# Altium footprint library CLS_Library.PcbLib: 23 footprints (part 2 of 2)
Each footprint in its own frame and in the unit in brackets; x right, y up, seen from the top. Pads: shape width x height; smd on the part's side, far side on the other; paste and mask are expansions set on the pad; w line width, h text height; cw(c..) or ccw(c..) is an arc to the next point about the centre after c.
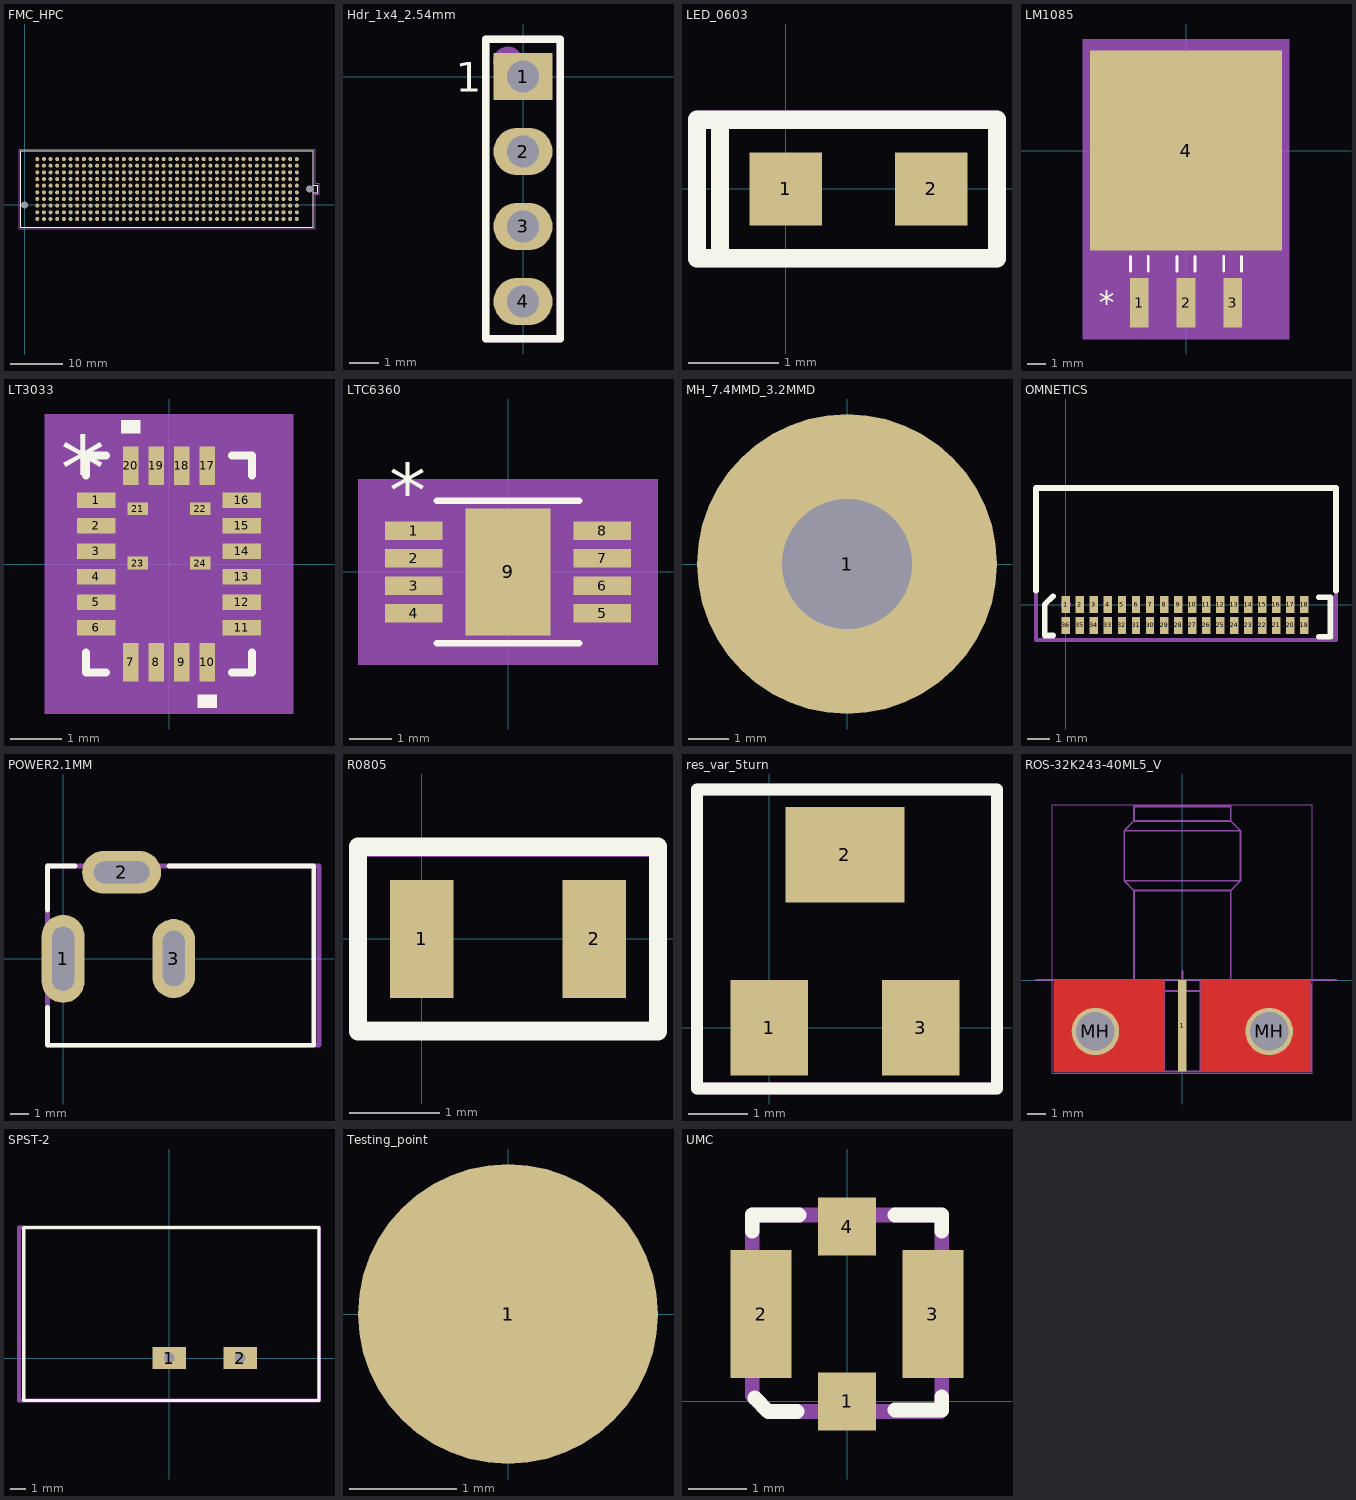
[diagram p1: the footprints below, top view; thin cyan lines are the x and y axes]

## FMC_HPC [mm]
pads (802):
  round 0.762 smd paste-25.4 mask+0.013: A1(51.956,8.765) A2(50.686,8.765) A3(49.416,8.765) A4(48.146,8.765) A5(46.876,8.765) A6(45.606,8.765) A7(44.336,8.765) A8(43.066,8.765) A9(41.796,8.765) A10(40.526,8.765) A11(39.256,8.765) A12(37.986,8.765) A13(36.716,8.765) A14(35.446,8.765) A15(34.176,8.765) A16(32.906,8.765) A17(31.636,8.765) A18(30.366,8.765) A19(29.096,8.765) A20(27.826,8.765) A21(26.556,8.765) A22(25.286,8.765) A23(24.016,8.765) A24(22.746,8.765) A25(21.476,8.765) A26(20.206,8.765) A27(18.936,8.765) A28(17.666,8.765) A29(16.396,8.765) A30(15.126,8.765) A31(13.856,8.765) A32(12.586,8.765) A33(11.316,8.765) A34(10.046,8.765) A35(8.776,8.765) A36(7.506,8.765) A37(6.236,8.765) A38(4.966,8.765) A39(3.696,8.765) A40(2.426,8.765) B1(51.956,7.495) B2(50.686,7.495) B3(49.416,7.495) B4(48.146,7.495) B5(46.876,7.495) B6(45.606,7.495) B7(44.336,7.495) B8(43.066,7.495) B9(41.796,7.495) B10(40.526,7.495) B11(39.256,7.495) B12(37.986,7.495) B13(36.716,7.495) B14(35.446,7.495) B15(34.176,7.495) B16(32.906,7.495) B17(31.636,7.495) B18(30.366,7.495) B19(29.096,7.495) B20(27.826,7.495) B21(26.556,7.495) B22(25.286,7.495) B23(24.016,7.495) B24(22.746,7.495) B25(21.476,7.495) B26(20.206,7.495) B27(18.936,7.495) B28(17.666,7.495) B29(16.396,7.495) B30(15.126,7.495) B31(13.856,7.495) B32(12.586,7.495) B33(11.316,7.495) B34(10.046,7.495) B35(8.776,7.495) B36(7.506,7.495) B37(6.236,7.495) B38(4.966,7.495) B39(3.696,7.495) B40(2.426,7.495) C1(51.956,6.225) C2(50.686,6.225) C3(49.416,6.225) C4(48.146,6.225) C5(46.876,6.225) C6(45.606,6.225) C7(44.336,6.225) C8(43.066,6.225) C9(41.796,6.225) C10(40.526,6.225) C11(39.256,6.225) C12(37.986,6.225) C13(36.716,6.225) C14(35.446,6.225) C15(34.176,6.225) C16(32.906,6.225) C17(31.636,6.225) C18(30.366,6.225) C19(29.096,6.225) C20(27.826,6.225) C21(26.556,6.225) C22(25.286,6.225) C23(24.016,6.225) C24(22.746,6.225) C25(21.476,6.225) C26(20.206,6.225) C27(18.936,6.225) C28(17.666,6.225) C29(16.396,6.225) C30(15.126,6.225) C31(13.856,6.225) C32(12.586,6.225) C33(11.316,6.225) C34(10.046,6.225) C35(8.776,6.225) C36(7.506,6.225) C37(6.236,6.225) C38(4.966,6.225) C39(3.696,6.225) C40(2.426,6.225) D1(51.956,4.955) D2(50.686,4.955) D3(49.416,4.955) D4(48.146,4.955) D5(46.876,4.955) D6(45.606,4.955) D7(44.336,4.955) D8(43.066,4.955) D9(41.796,4.955) D10(40.526,4.955) D11(39.256,4.955) D12(37.986,4.955) D13(36.716,4.955) D14(35.446,4.955) D15(34.176,4.955) D16(32.906,4.955) D17(31.636,4.955) D18(30.366,4.955) D19(29.096,4.955) D20(27.826,4.955) D21(26.556,4.955) D22(25.286,4.955) D23(24.016,4.955) D24(22.746,4.955) D25(21.476,4.955) D26(20.206,4.955) D27(18.936,4.955) D28(17.666,4.955) D29(16.396,4.955) D30(15.126,4.955) D31(13.856,4.955) D32(12.586,4.955) D33(11.316,4.955) D34(10.046,4.955) D35(8.776,4.955) D36(7.506,4.955) D37(6.236,4.955) D38(4.966,4.955) D39(3.696,4.955) D40(2.426,4.955) E1(51.956,3.685) E2(50.686,3.685) E3(49.416,3.685) E4(48.146,3.685) E5(46.876,3.685) E6(45.606,3.685) E7(44.336,3.685) E8(43.066,3.685) E9(41.796,3.685) E10(40.526,3.685) E11(39.256,3.685) E12(37.986,3.685) E13(36.716,3.685) E14(35.446,3.685) E15(34.176,3.685) E16(32.906,3.685) E17(31.636,3.685) E18(30.366,3.685) E19(29.096,3.685) E20(27.826,3.685) E21(26.556,3.685) E22(25.286,3.685) E23(24.016,3.685) E24(22.746,3.685) E25(21.476,3.685) E26(20.206,3.685) E27(18.936,3.685) E28(17.666,3.685) E29(16.396,3.685) E30(15.126,3.685) E31(13.856,3.685) E32(12.586,3.685) E33(11.316,3.685) E34(10.046,3.685) E35(8.776,3.685) E36(7.506,3.685) E37(6.236,3.685) E38(4.966,3.685) E39(3.696,3.685) E40(2.426,3.685) F1(51.956,2.415) F2(50.686,2.415) F3(49.416,2.415) F4(48.146,2.415) F5(46.876,2.415) F6(45.606,2.415) F7(44.336,2.415) F8(43.066,2.415) F9(41.796,2.415) F10(40.526,2.415) F11(39.256,2.415) F12(37.986,2.415) F13(36.716,2.415) F14(35.446,2.415) F15(34.176,2.415) F16(32.906,2.415) F17(31.636,2.415) F18(30.366,2.415) F19(29.096,2.415) F20(27.826,2.415) F21(26.556,2.415) F22(25.286,2.415) F23(24.016,2.415) F24(22.746,2.415) F25(21.476,2.415) F26(20.206,2.415) F27(18.936,2.415) F28(17.666,2.415) F29(16.396,2.415) F30(15.126,2.415) F31(13.856,2.415) F32(12.586,2.415) F33(11.316,2.415) F34(10.046,2.415) F35(8.776,2.415) F36(7.506,2.415) F37(6.236,2.415) F38(4.966,2.415) F39(3.696,2.415) F40(2.426,2.415) G1(51.956,1.145) G2(50.686,1.145) G3(49.416,1.145) G4(48.146,1.145) G5(46.876,1.145) G6(45.606,1.145) G7(44.336,1.145) G8(43.066,1.145) G9(41.796,1.145) G10(40.526,1.145) G11(39.256,1.145) G12(37.986,1.145) G13(36.716,1.145) G14(35.446,1.145) G15(34.176,1.145) G16(32.906,1.145) G17(31.636,1.145) G18(30.366,1.145) G19(29.096,1.145) G20(27.826,1.145) G21(26.556,1.145) G22(25.286,1.145) G23(24.016,1.145) G24(22.746,1.145) G25(21.476,1.145) G26(20.206,1.145) G27(18.936,1.145) G28(17.666,1.145) G29(16.396,1.145) G30(15.126,1.145) G31(13.856,1.145) G32(12.586,1.145) G33(11.316,1.145) G34(10.046,1.145) G35(8.776,1.145) G36(7.506,1.145) G37(6.236,1.145) G38(4.966,1.145) G39(3.696,1.145) G40(2.426,1.145) H1(51.956,-0.125) H2(50.686,-0.125) H3(49.416,-0.125) H4(48.146,-0.125) H5(46.876,-0.125) H6(45.606,-0.125) H7(44.336,-0.125) H8(43.066,-0.125) H9(41.796,-0.125) H10(40.526,-0.125) H11(39.256,-0.125) H12(37.986,-0.125) H13(36.716,-0.125) H14(35.446,-0.125) H15(34.176,-0.125) H16(32.906,-0.125) H17(31.636,-0.125) H18(30.366,-0.125) H19(29.096,-0.125) H20(27.826,-0.125) H21(26.556,-0.125) H22(25.286,-0.125) H23(24.016,-0.125) H24(22.746,-0.125) H25(21.476,-0.125) H26(20.206,-0.125) H27(18.936,-0.125) H28(17.666,-0.125) H29(16.396,-0.125) H30(15.126,-0.125) H31(13.856,-0.125) H32(12.586,-0.125) H33(11.316,-0.125) H34(10.046,-0.125) H35(8.776,-0.125) H36(7.506,-0.125) H37(6.236,-0.125) H38(4.966,-0.125) H39(3.696,-0.125) H40(2.426,-0.125) J1(51.956,-1.395) J2(50.686,-1.395) J3(49.416,-1.395) J4(48.146,-1.395) J5(46.876,-1.395) J6(45.606,-1.395) J7(44.336,-1.395) J8(43.066,-1.395) J9(41.796,-1.395) J10(40.526,-1.395) J11(39.256,-1.395) J12(37.986,-1.395) J13(36.716,-1.395) J14(35.446,-1.395) J15(34.176,-1.395) J16(32.906,-1.395) J17(31.636,-1.395) J18(30.366,-1.395) J19(29.096,-1.395) J20(27.826,-1.395) J21(26.556,-1.395) J22(25.286,-1.395) J23(24.016,-1.395) J24(22.746,-1.395) J25(21.476,-1.395) J26(20.206,-1.395) J27(18.936,-1.395) J28(17.666,-1.395) J29(16.396,-1.395) J30(15.126,-1.395) J31(13.856,-1.395) J32(12.586,-1.395) J33(11.316,-1.395) J34(10.046,-1.395) J35(8.776,-1.395) J36(7.506,-1.395) J37(6.236,-1.395) J38(4.966,-1.395) J39(3.696,-1.395) J40(2.426,-1.395) K1(51.956,-2.665) K2(50.686,-2.665) K3(49.416,-2.665) K4(48.146,-2.665) K5(46.876,-2.665) K6(45.606,-2.665) K7(44.336,-2.665) K8(43.066,-2.665) K9(41.796,-2.665) K10(40.526,-2.665) K11(39.256,-2.665) K12(37.986,-2.665) K13(36.716,-2.665) K14(35.446,-2.665) K15(34.176,-2.665) K16(32.906,-2.665) K17(31.636,-2.665) K18(30.366,-2.665) K19(29.096,-2.665) K20(27.826,-2.665) K21(26.556,-2.665) K22(25.286,-2.665) K23(24.016,-2.665) K24(22.746,-2.665) K25(21.476,-2.665) K26(20.206,-2.665) K27(18.936,-2.665) K28(17.666,-2.665) K29(16.396,-2.665) K30(15.126,-2.665) K31(13.856,-2.665) K32(12.586,-2.665) K33(11.316,-2.665) K34(10.046,-2.665) K35(8.776,-2.665) K36(7.506,-2.665) K37(6.236,-2.665) K38(4.966,-2.665) K39(3.696,-2.665) K40(2.426,-2.665)
  round 1.27 hole 1.27 unplated: ""(0,0) ""(54.382,3.05)
  round 0.635 on Bottom Solder paste-25.4 mask+0.003: ""(2.426,-2.665) ""(2.426,-1.395) ""(2.426,-0.125) ""(2.426,1.145) ""(2.426,2.415) ""(2.426,3.685) ""(2.426,4.955) ""(2.426,6.225) ""(2.426,7.495) ""(2.426,8.765) ""(3.696,-2.665) ""(3.696,-1.395) ""(3.696,-0.125) ""(3.696,1.145) ""(3.696,2.415) ""(3.696,3.685) ""(3.696,4.955) ""(3.696,6.225) ""(3.696,7.495) ""(3.696,8.765) ""(4.966,-2.665) ""(4.966,-1.395) ""(4.966,-0.125) ""(4.966,1.145) ""(4.966,2.415) ""(4.966,3.685) ""(4.966,4.955) ""(4.966,6.225) ""(4.966,7.495) ""(4.966,8.765) ""(6.236,-2.665) ""(6.236,-1.395) ""(6.236,-0.125) ""(6.236,1.145) ""(6.236,2.415) ""(6.236,3.685) ""(6.236,4.955) ""(6.236,6.225) ""(6.236,7.495) ""(6.236,8.765) ""(7.506,-2.665) ""(7.506,-1.395) ""(7.506,-0.125) ""(7.506,1.145) ""(7.506,2.415) ""(7.506,3.685) ""(7.506,4.955) ""(7.506,6.225) ""(7.506,7.495) ""(7.506,8.765) ""(8.776,-2.665) ""(8.776,-1.395) ""(8.776,-0.125) ""(8.776,1.145) ""(8.776,2.415) ""(8.776,3.685) ""(8.776,4.955) ""(8.776,6.225) ""(8.776,7.495) ""(8.776,8.765) ""(10.046,-2.665) ""(10.046,-1.395) ""(10.046,-0.125) ""(10.046,1.145) ""(10.046,2.415) ""(10.046,3.685) ""(10.046,4.955) ""(10.046,6.225) ""(10.046,7.495) ""(10.046,8.765) ""(11.316,-2.665) ""(11.316,-1.395) ""(11.316,-0.125) ""(11.316,1.145) ""(11.316,2.415) ""(11.316,3.685) ""(11.316,4.955) ""(11.316,6.225) ""(11.316,7.495) ""(11.316,8.765) ""(12.586,-2.665) ""(12.586,-1.395) ""(12.586,-0.125) ""(12.586,1.145) ""(12.586,2.415) ""(12.586,3.685) ""(12.586,4.955) ""(12.586,6.225) ""(12.586,7.495) ""(12.586,8.765) ""(13.856,-2.665) ""(13.856,-1.395) ""(13.856,-0.125) ""(13.856,1.145) ""(13.856,2.415) ""(13.856,3.685) ""(13.856,4.955) ""(13.856,6.225) ""(13.856,7.495) ""(13.856,8.765) ""(15.126,-2.665) ""(15.126,-1.395) ""(15.126,-0.125) ""(15.126,1.145) ""(15.126,2.415) ""(15.126,3.685) ""(15.126,4.955) ""(15.126,6.225) ""(15.126,7.495) ""(15.126,8.765) ""(16.396,-2.665) ""(16.396,-1.395) ""(16.396,-0.125) ""(16.396,1.145) ""(16.396,2.415) ""(16.396,3.685) ""(16.396,4.955) ""(16.396,6.225) ""(16.396,7.495) ""(16.396,8.765) ""(17.666,-2.665) ""(17.666,-1.395) ""(17.666,-0.125) ""(17.666,1.145) ""(17.666,2.415) ""(17.666,3.685) ""(17.666,4.955) ""(17.666,6.225) ""(17.666,7.495) ""(17.666,8.765) ""(18.936,-2.665) ""(18.936,-1.395) ""(18.936,-0.125) ""(18.936,1.145) ""(18.936,2.415) ""(18.936,3.685) ""(18.936,4.955) ""(18.936,6.225) ""(18.936,7.495) ""(18.936,8.765) ""(20.206,-2.665) ""(20.206,-1.395) ""(20.206,-0.125) ""(20.206,1.145) ""(20.206,2.415) ""(20.206,3.685) ""(20.206,4.955) ""(20.206,6.225) ""(20.206,7.495) ""(20.206,8.765) ""(21.476,-2.665) ""(21.476,-1.395) ""(21.476,-0.125) ""(21.476,1.145) ""(21.476,2.415) ""(21.476,3.685) ""(21.476,4.955) ""(21.476,6.225) ""(21.476,7.495) ""(21.476,8.765) ""(22.746,-2.665) ""(22.746,-1.395) ""(22.746,-0.125) ""(22.746,1.145) ""(22.746,2.415) ""(22.746,3.685) ""(22.746,4.955) ""(22.746,6.225) ""(22.746,7.495) ""(22.746,8.765) ""(24.016,-2.665) ""(24.016,-1.395) ""(24.016,-0.125) ""(24.016,1.145) ""(24.016,2.415) ""(24.016,3.685) ""(24.016,4.955) ""(24.016,6.225) ""(24.016,7.495) ""(24.016,8.765) ""(25.286,-2.665) ""(25.286,-1.395) ""(25.286,-0.125) ""(25.286,1.145) ""(25.286,2.415) ""(25.286,3.685) ""(25.286,4.955) ""(25.286,6.225) ""(25.286,7.495) ""(25.286,8.765) ""(26.556,-2.665) ""(26.556,-1.395) ""(26.556,-0.125) ""(26.556,1.145) ""(26.556,2.415) ""(26.556,3.685) ""(26.556,4.955) ""(26.556,6.225) ""(26.556,7.495) ""(26.556,8.765) ""(27.826,-2.665) ""(27.826,-1.395) ""(27.826,-0.125) ""(27.826,1.145) ""(27.826,2.415) ""(27.826,3.685) ""(27.826,4.955) ""(27.826,6.225) ""(27.826,7.495) ""(27.826,8.765) ""(29.096,-2.665) ""(29.096,-1.395) ""(29.096,-0.125) ""(29.096,1.145) ""(29.096,2.415) ""(29.096,3.685) ""(29.096,4.955) ""(29.096,6.225) ""(29.096,7.495) ""(29.096,8.765) ""(30.366,-2.665) ""(30.366,-1.395) ""(30.366,-0.125) ""(30.366,1.145) ""(30.366,2.415) ""(30.366,3.685) ""(30.366,4.955) ""(30.366,6.225) ""(30.366,7.495) ""(30.366,8.765) ""(31.636,-2.665) ""(31.636,-1.395) ""(31.636,-0.125) ""(31.636,1.145) ""(31.636,2.415) ""(31.636,3.685) ""(31.636,4.955) ""(31.636,6.225) ""(31.636,7.495) ""(31.636,8.765) ""(32.906,-2.665) ""(32.906,-1.395) ""(32.906,-0.125) ""(32.906,1.145) ""(32.906,2.415) ""(32.906,3.685) ""(32.906,4.955) ""(32.906,6.225) ""(32.906,7.495) ""(32.906,8.765) ""(34.176,-2.665) ""(34.176,-1.395) ""(34.176,-0.125) ""(34.176,1.145) ""(34.176,2.415) ""(34.176,3.685) ""(34.176,4.955) ""(34.176,6.225) ""(34.176,7.495) ""(34.176,8.765) ""(35.446,-2.665) ""(35.446,-1.395) ""(35.446,-0.125) ""(35.446,1.145) ""(35.446,2.415) ""(35.446,3.685) ""(35.446,4.955) ""(35.446,6.225) ""(35.446,7.495) ""(35.446,8.765) ""(36.716,-2.665) ""(36.716,-1.395) ""(36.716,-0.125) ""(36.716,1.145) ""(36.716,2.415) ""(36.716,3.685) ""(36.716,4.955) ""(36.716,6.225) ""(36.716,7.495) ""(36.716,8.765) ""(37.986,-2.665) ""(37.986,-1.395) ""(37.986,-0.125) ""(37.986,1.145) ""(37.986,2.415) ""(37.986,3.685) ""(37.986,4.955) ""(37.986,6.225) ""(37.986,7.495) ""(37.986,8.765) ""(39.256,-2.665) ""(39.256,-1.395) ""(39.256,-0.125) ""(39.256,1.145) ""(39.256,2.415) ""(39.256,3.685) ""(39.256,4.955) ""(39.256,6.225) ""(39.256,7.495) ""(39.256,8.765) ""(40.526,-2.665) ""(40.526,-1.395) ""(40.526,-0.125) ""(40.526,1.145) ""(40.526,2.415) ""(40.526,3.685) ""(40.526,4.955) ""(40.526,6.225) ""(40.526,7.495) ""(40.526,8.765) ""(41.796,-2.665) ""(41.796,-1.395) ""(41.796,-0.125) ""(41.796,1.145) ""(41.796,2.415) ""(41.796,3.685) ""(41.796,4.955) ""(41.796,6.225) ""(41.796,7.495) ""(41.796,8.765) ""(43.066,-2.665) ""(43.066,-1.395) ""(43.066,-0.125) ""(43.066,1.145) ""(43.066,2.415) ""(43.066,3.685) ""(43.066,4.955) ""(43.066,6.225) ""(43.066,7.495) ""(43.066,8.765) ""(44.336,-2.665) ""(44.336,-1.395) ""(44.336,-0.125) ""(44.336,1.145) ""(44.336,2.415) ""(44.336,3.685) ""(44.336,4.955) ""(44.336,6.225) ""(44.336,7.495) ""(44.336,8.765) ""(45.606,-2.665) ""(45.606,-1.395) ""(45.606,-0.125) ""(45.606,1.145) ""(45.606,2.415) ""(45.606,3.685) ""(45.606,4.955) ""(45.606,6.225) ""(45.606,7.495) ""(45.606,8.765) ""(46.876,-2.665) ""(46.876,-1.395) ""(46.876,-0.125) ""(46.876,1.145) ""(46.876,2.415) ""(46.876,3.685) ""(46.876,4.955) ""(46.876,6.225) ""(46.876,7.495) ""(46.876,8.765) ""(48.146,-2.665) ""(48.146,-1.395) ""(48.146,-0.125) ""(48.146,1.145) ""(48.146,2.415) ""(48.146,3.685) ""(48.146,4.955) ""(48.146,6.225) ""(48.146,7.495) ""(48.146,8.765) ""(49.416,-2.665) ""(49.416,-1.395) ""(49.416,-0.125) ""(49.416,1.145) ""(49.416,2.415) ""(49.416,3.685) ""(49.416,4.955) ""(49.416,6.225) ""(49.416,7.495) ""(49.416,8.765) ""(50.686,-2.665) ""(50.686,-1.395) ""(50.686,-0.125) ""(50.686,1.145) ""(50.686,2.415) ""(50.686,3.685) ""(50.686,4.955) ""(50.686,6.225) ""(50.686,7.495) ""(50.686,8.765) ""(51.956,-2.665) ""(51.956,-1.395) ""(51.956,-0.125) ""(51.956,1.145) ""(51.956,2.415) ""(51.956,3.685) ""(51.956,4.955) ""(51.956,6.225) ""(51.956,7.495) ""(51.956,8.765)
via 20.206,3.685 diameter 0.635 hole 0.254
via 21.476,3.685 diameter 0.635 hole 0.254
via 22.746,3.685 diameter 0.635 hole 0.254
via 24.016,3.685 diameter 0.635 hole 0.254
via 20.206,2.415 diameter 0.635 hole 0.254
via 21.476,2.415 diameter 0.635 hole 0.254
via 22.746,2.415 diameter 0.635 hole 0.254
via 24.016,2.415 diameter 0.635 hole 0.254
via 20.206,-1.395 diameter 0.635 hole 0.254
via 21.476,-1.395 diameter 0.635 hole 0.254
via 22.746,-1.395 diameter 0.635 hole 0.254
via 24.016,-1.395 diameter 0.635 hole 0.254
via 20.206,-2.665 diameter 0.635 hole 0.254
via 21.476,-2.665 diameter 0.635 hole 0.254
via 22.746,-2.665 diameter 0.635 hole 0.254
via 24.016,-2.665 diameter 0.635 hole 0.254
via 2.426,2.415 diameter 0.635 hole 0.254
via 2.426,3.685 diameter 0.635 hole 0.254
via 3.696,3.685 diameter 0.635 hole 0.254
via 4.966,3.685 diameter 0.635 hole 0.254
via 6.236,3.685 diameter 0.635 hole 0.254
via 7.506,3.685 diameter 0.635 hole 0.254
via 8.776,3.685 diameter 0.635 hole 0.254
via 10.046,3.685 diameter 0.635 hole 0.254
via 11.316,3.685 diameter 0.635 hole 0.254
via 12.586,3.685 diameter 0.635 hole 0.254
via 13.856,3.685 diameter 0.635 hole 0.254
via 15.126,3.685 diameter 0.635 hole 0.254
via 16.396,3.685 diameter 0.635 hole 0.254
via 17.666,3.685 diameter 0.635 hole 0.254
via 18.936,3.685 diameter 0.635 hole 0.254
via 25.286,3.685 diameter 0.635 hole 0.254
via 26.556,3.685 diameter 0.635 hole 0.254
via 27.826,3.685 diameter 0.635 hole 0.254
via 29.096,3.685 diameter 0.635 hole 0.254
via 30.366,3.685 diameter 0.635 hole 0.254
via 31.636,3.685 diameter 0.635 hole 0.254
via 32.906,3.685 diameter 0.635 hole 0.254
via 34.176,3.685 diameter 0.635 hole 0.254
via 35.446,3.685 diameter 0.635 hole 0.254
via 36.716,3.685 diameter 0.635 hole 0.254
via 37.986,3.685 diameter 0.635 hole 0.254
via 39.256,3.685 diameter 0.635 hole 0.254
via 40.526,3.685 diameter 0.635 hole 0.254
via 41.796,3.685 diameter 0.635 hole 0.254
via 43.066,3.685 diameter 0.635 hole 0.254
via 44.336,3.685 diameter 0.635 hole 0.254
via 45.606,3.685 diameter 0.635 hole 0.254
via 46.876,3.685 diameter 0.635 hole 0.254
via 48.146,3.685 diameter 0.635 hole 0.254
via 49.416,3.685 diameter 0.635 hole 0.254
via 50.686,3.685 diameter 0.635 hole 0.254
via 51.956,3.685 diameter 0.635 hole 0.254
via 3.696,2.415 diameter 0.635 hole 0.254
via 4.966,2.415 diameter 0.635 hole 0.254
via 6.236,2.415 diameter 0.635 hole 0.254
via 7.506,2.415 diameter 0.635 hole 0.254
via 8.776,2.415 diameter 0.635 hole 0.254
via 10.046,2.415 diameter 0.635 hole 0.254
via 11.316,2.415 diameter 0.635 hole 0.254
via 12.586,2.415 diameter 0.635 hole 0.254
via 13.856,2.415 diameter 0.635 hole 0.254
via 15.126,2.415 diameter 0.635 hole 0.254
via 16.396,2.415 diameter 0.635 hole 0.254
via 17.666,2.415 diameter 0.635 hole 0.254
via 18.936,2.415 diameter 0.635 hole 0.254
via 25.286,2.415 diameter 0.635 hole 0.254
via 26.556,2.415 diameter 0.635 hole 0.254
via 27.826,2.415 diameter 0.635 hole 0.254
via 29.096,2.415 diameter 0.635 hole 0.254
via 30.366,2.415 diameter 0.635 hole 0.254
via 31.636,2.415 diameter 0.635 hole 0.254
via 32.906,2.415 diameter 0.635 hole 0.254
via 34.176,2.415 diameter 0.635 hole 0.254
via 35.446,2.415 diameter 0.635 hole 0.254
via 36.716,2.415 diameter 0.635 hole 0.254
via 37.986,2.415 diameter 0.635 hole 0.254
via 39.256,2.415 diameter 0.635 hole 0.254
via 40.526,2.415 diameter 0.635 hole 0.254
via 41.796,2.415 diameter 0.635 hole 0.254
via 43.066,2.415 diameter 0.635 hole 0.254
via 44.336,2.415 diameter 0.635 hole 0.254
via 45.606,2.415 diameter 0.635 hole 0.254
via 46.876,2.415 diameter 0.635 hole 0.254
via 48.146,2.415 diameter 0.635 hole 0.254
via 49.416,2.415 diameter 0.635 hole 0.254
via 50.686,2.415 diameter 0.635 hole 0.254
via 51.956,2.415 diameter 0.635 hole 0.254
via 2.426,-1.395 diameter 0.635 hole 0.254
via 3.696,-1.395 diameter 0.635 hole 0.254
via 4.966,-1.395 diameter 0.635 hole 0.254
via 6.236,-1.395 diameter 0.635 hole 0.254
via 7.506,-1.395 diameter 0.635 hole 0.254
via 8.776,-1.395 diameter 0.635 hole 0.254
via 10.046,-1.395 diameter 0.635 hole 0.254
via 11.316,-1.395 diameter 0.635 hole 0.254
via 12.586,-1.395 diameter 0.635 hole 0.254
via 13.856,-1.395 diameter 0.635 hole 0.254
via 15.126,-1.395 diameter 0.635 hole 0.254
via 16.396,-1.395 diameter 0.635 hole 0.254
via 17.666,-1.395 diameter 0.635 hole 0.254
via 18.936,-1.395 diameter 0.635 hole 0.254
via 25.286,-1.395 diameter 0.635 hole 0.254
via 26.556,-1.395 diameter 0.635 hole 0.254
via 27.826,-1.395 diameter 0.635 hole 0.254
via 29.096,-1.395 diameter 0.635 hole 0.254
via 30.366,-1.395 diameter 0.635 hole 0.254
via 31.636,-1.395 diameter 0.635 hole 0.254
via 32.906,-1.395 diameter 0.635 hole 0.254
via 34.176,-1.395 diameter 0.635 hole 0.254
via 35.446,-1.395 diameter 0.635 hole 0.254
via 36.716,-1.395 diameter 0.635 hole 0.254
via 37.986,-1.395 diameter 0.635 hole 0.254
via 39.256,-1.395 diameter 0.635 hole 0.254
via 40.526,-1.395 diameter 0.635 hole 0.254
via 41.796,-1.395 diameter 0.635 hole 0.254
via 43.066,-1.395 diameter 0.635 hole 0.254
via 44.336,-1.395 diameter 0.635 hole 0.254
via 45.606,-1.395 diameter 0.635 hole 0.254
via 46.876,-1.395 diameter 0.635 hole 0.254
via 48.146,-1.395 diameter 0.635 hole 0.254
via 49.416,-1.395 diameter 0.635 hole 0.254
via 50.686,-1.395 diameter 0.635 hole 0.254
via 51.956,-1.395 diameter 0.635 hole 0.254
via 2.426,-2.665 diameter 0.635 hole 0.254
via 3.696,-2.665 diameter 0.635 hole 0.254
via 4.966,-2.665 diameter 0.635 hole 0.254
via 6.236,-2.665 diameter 0.635 hole 0.254
via 7.506,-2.665 diameter 0.635 hole 0.254
via 8.776,-2.665 diameter 0.635 hole 0.254
via 10.046,-2.665 diameter 0.635 hole 0.254
via 11.316,-2.665 diameter 0.635 hole 0.254
via 12.586,-2.665 diameter 0.635 hole 0.254
via 13.856,-2.665 diameter 0.635 hole 0.254
via 15.126,-2.665 diameter 0.635 hole 0.254
via 16.396,-2.665 diameter 0.635 hole 0.254
via 17.666,-2.665 diameter 0.635 hole 0.254
via 18.936,-2.665 diameter 0.635 hole 0.254
via 25.286,-2.665 diameter 0.635 hole 0.254
via 26.556,-2.665 diameter 0.635 hole 0.254
via 27.826,-2.665 diameter 0.635 hole 0.254
via 29.096,-2.665 diameter 0.635 hole 0.254
via 30.366,-2.665 diameter 0.635 hole 0.254
via 31.636,-2.665 diameter 0.635 hole 0.254
via 32.906,-2.665 diameter 0.635 hole 0.254
via 34.176,-2.665 diameter 0.635 hole 0.254
via 35.446,-2.665 diameter 0.635 hole 0.254
via 36.716,-2.665 diameter 0.635 hole 0.254
via 37.986,-2.665 diameter 0.635 hole 0.254
via 39.256,-2.665 diameter 0.635 hole 0.254
via 40.526,-2.665 diameter 0.635 hole 0.254
via 41.796,-2.665 diameter 0.635 hole 0.254
via 43.066,-2.665 diameter 0.635 hole 0.254
via 44.336,-2.665 diameter 0.635 hole 0.254
via 45.606,-2.665 diameter 0.635 hole 0.254
via 46.876,-2.665 diameter 0.635 hole 0.254
via 48.146,-2.665 diameter 0.635 hole 0.254
via 49.416,-2.665 diameter 0.635 hole 0.254
via 50.686,-2.665 diameter 0.635 hole 0.254
via 51.956,-2.665 diameter 0.635 hole 0.254
via 20.206,6.225 diameter 0.635 hole 0.254
via 21.476,6.225 diameter 0.635 hole 0.254
via 22.746,6.225 diameter 0.635 hole 0.254
via 24.016,6.225 diameter 0.635 hole 0.254
via 20.206,4.955 diameter 0.635 hole 0.254
via 21.476,4.955 diameter 0.635 hole 0.254
via 22.746,4.955 diameter 0.635 hole 0.254
via 24.016,4.955 diameter 0.635 hole 0.254
via 20.206,1.145 diameter 0.635 hole 0.254
via 21.476,1.145 diameter 0.635 hole 0.254
via 22.746,1.145 diameter 0.635 hole 0.254
via 24.016,1.145 diameter 0.635 hole 0.254
via 20.206,-0.125 diameter 0.635 hole 0.254
via 21.476,-0.125 diameter 0.635 hole 0.254
via 22.746,-0.125 diameter 0.635 hole 0.254
via 24.016,-0.125 diameter 0.635 hole 0.254
via 2.426,4.955 diameter 0.635 hole 0.254
via 2.426,6.225 diameter 0.635 hole 0.254
via 3.696,6.225 diameter 0.635 hole 0.254
via 4.966,6.225 diameter 0.635 hole 0.254
via 6.236,6.225 diameter 0.635 hole 0.254
via 7.506,6.225 diameter 0.635 hole 0.254
via 8.776,6.225 diameter 0.635 hole 0.254
via 10.046,6.225 diameter 0.635 hole 0.254
via 11.316,6.225 diameter 0.635 hole 0.254
via 12.586,6.225 diameter 0.635 hole 0.254
via 13.856,6.225 diameter 0.635 hole 0.254
via 15.126,6.225 diameter 0.635 hole 0.254
via 16.396,6.225 diameter 0.635 hole 0.254
via 17.666,6.225 diameter 0.635 hole 0.254
via 18.936,6.225 diameter 0.635 hole 0.254
via 25.286,6.225 diameter 0.635 hole 0.254
via 26.556,6.225 diameter 0.635 hole 0.254
via 27.826,6.225 diameter 0.635 hole 0.254
via 29.096,6.225 diameter 0.635 hole 0.254
via 30.366,6.225 diameter 0.635 hole 0.254
via 31.636,6.225 diameter 0.635 hole 0.254
via 32.906,6.225 diameter 0.635 hole 0.254
via 34.176,6.225 diameter 0.635 hole 0.254
via 35.446,6.225 diameter 0.635 hole 0.254
via 36.716,6.225 diameter 0.635 hole 0.254
via 37.986,6.225 diameter 0.635 hole 0.254
via 39.256,6.225 diameter 0.635 hole 0.254
via 40.526,6.225 diameter 0.635 hole 0.254
via 41.796,6.225 diameter 0.635 hole 0.254
via 43.066,6.225 diameter 0.635 hole 0.254
via 44.336,6.225 diameter 0.635 hole 0.254
via 45.606,6.225 diameter 0.635 hole 0.254
via 46.876,6.225 diameter 0.635 hole 0.254
via 48.146,6.225 diameter 0.635 hole 0.254
via 49.416,6.225 diameter 0.635 hole 0.254
via 50.686,6.225 diameter 0.635 hole 0.254
via 51.956,6.225 diameter 0.635 hole 0.254
via 3.696,4.955 diameter 0.635 hole 0.254
via 4.966,4.955 diameter 0.635 hole 0.254
via 6.236,4.955 diameter 0.635 hole 0.254
via 7.506,4.955 diameter 0.635 hole 0.254
via 8.776,4.955 diameter 0.635 hole 0.254
via 10.046,4.955 diameter 0.635 hole 0.254
via 11.316,4.955 diameter 0.635 hole 0.254
via 12.586,4.955 diameter 0.635 hole 0.254
via 13.856,4.955 diameter 0.635 hole 0.254
via 15.126,4.955 diameter 0.635 hole 0.254
via 16.396,4.955 diameter 0.635 hole 0.254
via 17.666,4.955 diameter 0.635 hole 0.254
via 18.936,4.955 diameter 0.635 hole 0.254
via 25.286,4.955 diameter 0.635 hole 0.254
via 26.556,4.955 diameter 0.635 hole 0.254
via 27.826,4.955 diameter 0.635 hole 0.254
via 29.096,4.955 diameter 0.635 hole 0.254
via 30.366,4.955 diameter 0.635 hole 0.254
via 31.636,4.955 diameter 0.635 hole 0.254
via 32.906,4.955 diameter 0.635 hole 0.254
via 34.176,4.955 diameter 0.635 hole 0.254
via 35.446,4.955 diameter 0.635 hole 0.254
via 36.716,4.955 diameter 0.635 hole 0.254
via 37.986,4.955 diameter 0.635 hole 0.254
via 39.256,4.955 diameter 0.635 hole 0.254
via 40.526,4.955 diameter 0.635 hole 0.254
via 41.796,4.955 diameter 0.635 hole 0.254
via 43.066,4.955 diameter 0.635 hole 0.254
via 44.336,4.955 diameter 0.635 hole 0.254
via 45.606,4.955 diameter 0.635 hole 0.254
via 46.876,4.955 diameter 0.635 hole 0.254
via 48.146,4.955 diameter 0.635 hole 0.254
via 49.416,4.955 diameter 0.635 hole 0.254
via 50.686,4.955 diameter 0.635 hole 0.254
via 51.956,4.955 diameter 0.635 hole 0.254
via 2.426,1.145 diameter 0.635 hole 0.254
via 3.696,1.145 diameter 0.635 hole 0.254
via 4.966,1.145 diameter 0.635 hole 0.254
via 6.236,1.145 diameter 0.635 hole 0.254
via 7.506,1.145 diameter 0.635 hole 0.254
via 8.776,1.145 diameter 0.635 hole 0.254
via 10.046,1.145 diameter 0.635 hole 0.254
via 11.316,1.145 diameter 0.635 hole 0.254
via 12.586,1.145 diameter 0.635 hole 0.254
via 13.856,1.145 diameter 0.635 hole 0.254
via 15.126,1.145 diameter 0.635 hole 0.254
via 16.396,1.145 diameter 0.635 hole 0.254
via 17.666,1.145 diameter 0.635 hole 0.254
via 18.936,1.145 diameter 0.635 hole 0.254
via 25.286,1.145 diameter 0.635 hole 0.254
via 26.556,1.145 diameter 0.635 hole 0.254
via 27.826,1.145 diameter 0.635 hole 0.254
via 29.096,1.145 diameter 0.635 hole 0.254
via 30.366,1.145 diameter 0.635 hole 0.254
via 31.636,1.145 diameter 0.635 hole 0.254
via 32.906,1.145 diameter 0.635 hole 0.254
via 34.176,1.145 diameter 0.635 hole 0.254
via 35.446,1.145 diameter 0.635 hole 0.254
via 36.716,1.145 diameter 0.635 hole 0.254
via 37.986,1.145 diameter 0.635 hole 0.254
via 39.256,1.145 diameter 0.635 hole 0.254
via 40.526,1.145 diameter 0.635 hole 0.254
via 41.796,1.145 diameter 0.635 hole 0.254
via 43.066,1.145 diameter 0.635 hole 0.254
via 44.336,1.145 diameter 0.635 hole 0.254
via 45.606,1.145 diameter 0.635 hole 0.254
via 46.876,1.145 diameter 0.635 hole 0.254
via 48.146,1.145 diameter 0.635 hole 0.254
via 49.416,1.145 diameter 0.635 hole 0.254
via 50.686,1.145 diameter 0.635 hole 0.254
via 51.956,1.145 diameter 0.635 hole 0.254
via 2.426,-0.125 diameter 0.635 hole 0.254
via 3.696,-0.125 diameter 0.635 hole 0.254
via 4.966,-0.125 diameter 0.635 hole 0.254
via 6.236,-0.125 diameter 0.635 hole 0.254
via 7.506,-0.125 diameter 0.635 hole 0.254
via 8.776,-0.125 diameter 0.635 hole 0.254
via 10.046,-0.125 diameter 0.635 hole 0.254
via 11.316,-0.125 diameter 0.635 hole 0.254
via 12.586,-0.125 diameter 0.635 hole 0.254
via 13.856,-0.125 diameter 0.635 hole 0.254
via 15.126,-0.125 diameter 0.635 hole 0.254
via 16.396,-0.125 diameter 0.635 hole 0.254
via 17.666,-0.125 diameter 0.635 hole 0.254
via 18.936,-0.125 diameter 0.635 hole 0.254
via 25.286,-0.125 diameter 0.635 hole 0.254
via 26.556,-0.125 diameter 0.635 hole 0.254
via 27.826,-0.125 diameter 0.635 hole 0.254
via 29.096,-0.125 diameter 0.635 hole 0.254
via 30.366,-0.125 diameter 0.635 hole 0.254
via 31.636,-0.125 diameter 0.635 hole 0.254
via 32.906,-0.125 diameter 0.635 hole 0.254
via 34.176,-0.125 diameter 0.635 hole 0.254
via 35.446,-0.125 diameter 0.635 hole 0.254
via 36.716,-0.125 diameter 0.635 hole 0.254
via 37.986,-0.125 diameter 0.635 hole 0.254
via 39.256,-0.125 diameter 0.635 hole 0.254
via 40.526,-0.125 diameter 0.635 hole 0.254
via 41.796,-0.125 diameter 0.635 hole 0.254
via 43.066,-0.125 diameter 0.635 hole 0.254
via 44.336,-0.125 diameter 0.635 hole 0.254
via 45.606,-0.125 diameter 0.635 hole 0.254
via 46.876,-0.125 diameter 0.635 hole 0.254
via 48.146,-0.125 diameter 0.635 hole 0.254
via 49.416,-0.125 diameter 0.635 hole 0.254
via 50.686,-0.125 diameter 0.635 hole 0.254
via 51.956,-0.125 diameter 0.635 hole 0.254
via 34.176,7.495 diameter 0.635 hole 0.254
via 32.906,7.495 diameter 0.635 hole 0.254
via 31.636,7.495 diameter 0.635 hole 0.254
via 30.366,7.495 diameter 0.635 hole 0.254
via 34.176,8.765 diameter 0.635 hole 0.254
via 32.906,8.765 diameter 0.635 hole 0.254
via 31.636,8.765 diameter 0.635 hole 0.254
via 30.366,8.765 diameter 0.635 hole 0.254
via 51.956,8.765 diameter 0.635 hole 0.254
via 51.956,7.495 diameter 0.635 hole 0.254
via 50.686,7.495 diameter 0.635 hole 0.254
via 49.416,7.495 diameter 0.635 hole 0.254
via 48.146,7.495 diameter 0.635 hole 0.254
via 46.876,7.495 diameter 0.635 hole 0.254
via 45.606,7.495 diameter 0.635 hole 0.254
via 44.336,7.495 diameter 0.635 hole 0.254
via 43.066,7.495 diameter 0.635 hole 0.254
via 41.796,7.495 diameter 0.635 hole 0.254
via 40.526,7.495 diameter 0.635 hole 0.254
via 39.256,7.495 diameter 0.635 hole 0.254
via 37.986,7.495 diameter 0.635 hole 0.254
via 36.716,7.495 diameter 0.635 hole 0.254
via 35.446,7.495 diameter 0.635 hole 0.254
via 29.096,7.495 diameter 0.635 hole 0.254
via 27.826,7.495 diameter 0.635 hole 0.254
via 26.556,7.495 diameter 0.635 hole 0.254
via 25.286,7.495 diameter 0.635 hole 0.254
via 24.016,7.495 diameter 0.635 hole 0.254
via 22.746,7.495 diameter 0.635 hole 0.254
via 21.476,7.495 diameter 0.635 hole 0.254
via 20.206,7.495 diameter 0.635 hole 0.254
via 18.936,7.495 diameter 0.635 hole 0.254
via 17.666,7.495 diameter 0.635 hole 0.254
via 16.396,7.495 diameter 0.635 hole 0.254
via 15.126,7.495 diameter 0.635 hole 0.254
via 13.856,7.495 diameter 0.635 hole 0.254
via 12.586,7.495 diameter 0.635 hole 0.254
via 11.316,7.495 diameter 0.635 hole 0.254
via 10.046,7.495 diameter 0.635 hole 0.254
via 8.776,7.495 diameter 0.635 hole 0.254
via 7.506,7.495 diameter 0.635 hole 0.254
via 6.236,7.495 diameter 0.635 hole 0.254
via 4.966,7.495 diameter 0.635 hole 0.254
via 3.696,7.495 diameter 0.635 hole 0.254
via 2.426,7.495 diameter 0.635 hole 0.254
via 50.686,8.765 diameter 0.635 hole 0.254
via 49.416,8.765 diameter 0.635 hole 0.254
via 48.146,8.765 diameter 0.635 hole 0.254
via 46.876,8.765 diameter 0.635 hole 0.254
via 45.606,8.765 diameter 0.635 hole 0.254
via 44.336,8.765 diameter 0.635 hole 0.254
via 43.066,8.765 diameter 0.635 hole 0.254
via 41.796,8.765 diameter 0.635 hole 0.254
via 40.526,8.765 diameter 0.635 hole 0.254
via 39.256,8.765 diameter 0.635 hole 0.254
via 37.986,8.765 diameter 0.635 hole 0.254
via 36.716,8.765 diameter 0.635 hole 0.254
via 35.446,8.765 diameter 0.635 hole 0.254
via 29.096,8.765 diameter 0.635 hole 0.254
via 27.826,8.765 diameter 0.635 hole 0.254
via 26.556,8.765 diameter 0.635 hole 0.254
via 25.286,8.765 diameter 0.635 hole 0.254
via 24.016,8.765 diameter 0.635 hole 0.254
via 22.746,8.765 diameter 0.635 hole 0.254
via 21.476,8.765 diameter 0.635 hole 0.254
via 20.206,8.765 diameter 0.635 hole 0.254
via 18.936,8.765 diameter 0.635 hole 0.254
via 17.666,8.765 diameter 0.635 hole 0.254
via 16.396,8.765 diameter 0.635 hole 0.254
via 15.126,8.765 diameter 0.635 hole 0.254
via 13.856,8.765 diameter 0.635 hole 0.254
via 12.586,8.765 diameter 0.635 hole 0.254
via 11.316,8.765 diameter 0.635 hole 0.254
via 10.046,8.765 diameter 0.635 hole 0.254
via 8.776,8.765 diameter 0.635 hole 0.254
via 7.506,8.765 diameter 0.635 hole 0.254
via 6.236,8.765 diameter 0.635 hole 0.254
via 4.966,8.765 diameter 0.635 hole 0.254
via 3.696,8.765 diameter 0.635 hole 0.254
via 2.426,8.765 diameter 0.635 hole 0.254
Top Overlay:
  lines w0.2: 55.131,2.29 55.971,2.29 55.971,3.81 55.131,3.81 ; -0.699,-4.29 -0.699,10.39 55.081,10.39 55.081,-4.29 -0.699,-4.29
Top Paste:
  drawing of 800 lines, arcs and shapes, not listed
Mechanical 1:
  lines w0.05: -1.059,-4.55 -1.059,10.65 55.441,10.65 55.441,4.15 56.191,4.15 56.191,2.05 55.441,2.05 55.441,-4.55 -1.059,-4.55
3D body: height 1.55, standoff 0, extent 55.023,2.179 56.007,3.917
3D body: height 1.55, standoff 0, extent -0.762,-4.191 55.118,10.414

## Hdr_1x4_2.54mm [mm]
pads (4):
  rect 2x1.6 hole 1.1: 1(0,0)
  oval 2x1.6 hole 1.1: 2(0,-2.54) 3(0,-5.08) 4(0,-7.62)
Top Overlay:
  lines w0.254: -1.27,-8.89 1.27,-8.89 1.27,1.27 -1.27,1.27 -1.27,-8.89
  text "1" at -2.286,-0.508 h1
Mechanical 29:
  circle w0.5: c-0.508,0.508 r0.254
  lines w0.254: -1.27,-8.89 1.27,-8.89 1.27,1.27 -1.27,1.27 -1.27,-8.89
  text ".Designator" at 0.66,-7.569 h1.52
3D body "68000-x04.stp": height 8.39, standoff -2.4, extent -1.207,-8.89 1.207,1.27

## LED_0603 [mm]
pads (2):
  rect 0.8x0.8 smd: 1(0,0) 2(1.6,0)
Top Overlay:
  lines w0.2: -0.724,-0.762 -0.724,0.762 ; -0.724,-0.762 2.324,-0.762 2.324,0.762 -0.724,0.762 ; -0.724,-0.762 -0.978,-0.762 -0.978,0.762 -0.724,0.762
Mechanical 29:
  lines w0.2: -0.724,-0.762 -0.724,0.762 -0.978,0.762 ; -0.978,0.762 2.324,0.762 2.324,-0.762 -0.978,-0.762 -0.978,0.762
  text ".Designator" at -0.216,-0.254 h0.6
3D body: height 0.7, standoff 0.5, extent 0.6,-0.2 1,0.2
3D body "User Library-LED SMD 0603 super red.step": height 0.66, standoff 0.01, extent -0.05,-0.4 1.65,0.4

## LM1085 [mil]
pads (4):
  rect 40x106 smd paste+0 mask+0: 1(-100,-326) 2(0,-326) 3(100,-326)
  rect 412x428 smd paste+0 mask+0: 4(0,0)
Top Overlay:
  lines w6: -119,-259 -119,-227.1 ; -81,-259 -81,-227.1 ; -19,-259 -19,-227.1 ; 19,-259 19,-227.1 ; 81,-259 81,-227.1 ; 119,-259 119,-227.1
  text "*" at -187.5,-351 h50
Mechanical 5:
  region: -221,239 221,239 221,-404 -221,-404
Mechanical 13:
  lines w1: -205,-200 -205,200 205,200 205,-200 -205,-200 ; -119,-365 -81,-365 -81,-200 -119,-200 -119,-365 ; -19,-365 19,-365 19,-200 -19,-200 -19,-365 ; 81,-365 119,-365 119,-200 81,-200 81,-365
  text "*" at -112.5,-215 h50
Mechanical 15:
  region: -130,-224 -216,-224 -216,224 216,224 216,-224 130,-224 130,-389 -130,-389
  lines w6: -216,-224 -130,-224 -130,-389 130,-389 130,-224 216,-224 216,224 -216,224 -216,-224
3D body "TS3B_TEX.step": height 189.09, standoff -2.01, extent -205,-277.51 205,200.12
3D body: height 10, standoff 0, extent 0,0 10,10

## LT3033 [mm]
pads (24):
  rect 0.755x0.3 smd paste+0 mask+0: 1(-1.427,1.25) 2(-1.427,0.75) 3(-1.427,0.25) 4(-1.427,-0.25) 5(-1.427,-0.75) 6(-1.427,-1.25) 11(1.427,-1.25) 12(1.427,-0.75) 13(1.427,-0.25) 14(1.427,0.25) 15(1.427,0.75) 16(1.427,1.25)
  rect 0.3x0.755 smd paste+0 mask+0: 7(-0.75,-1.927) 8(-0.25,-1.927) 9(0.25,-1.927) 10(0.75,-1.927) 17(0.75,1.927) 18(0.25,1.927) 19(-0.25,1.927) 20(-0.75,1.927)
  rect 0.41x0.25 smd paste+0 mask+0: 21(-0.613,1.081) 22(0.613,1.081) 23(-0.613,0.019) 24(0.613,0.019)
Top Overlay:
  region: -0.56,2.559 -0.941,2.559 -0.941,2.813 -0.56,2.813
  region: 0.941,-2.559 0.56,-2.559 0.56,-2.813 0.941,-2.813
  lines w0.152: -1.627,-1.733 -1.627,-2.127 -1.233,-2.127 ; -1.627,1.733 -1.627,2.127 -1.233,2.127 ; 1.233,-2.127 1.627,-2.127 1.627,-1.733 ; 1.233,2.127 1.627,2.127 1.627,1.733
  text "*" at -2.122,1.246 h1.27
Mechanical 5:
  region: 2.44,-2.94 -2.44,-2.94 -2.44,2.94 2.44,2.94
Mechanical 13:
  lines w0.025: -1.5,0.73 -0.23,2 ; -1.5,-2 -1.5,2 1.5,2 1.5,-2 -1.5,-2 ; -1.5,-1.4 -1.5,-1.1 -1.5,-1.4 ; -1.5,-0.9 -1.5,-0.6 -1.5,-0.9 ; -1.5,-0.4 -1.5,-0.1 -1.5,-0.4 ; -1.5,0.1 -1.5,0.4 -1.5,0.1 ; -1.5,0.6 -1.5,0.9 -1.5,0.6 ; -1.5,1.1 -1.5,1.4 -1.5,1.1 ; -0.9,-2 -0.6,-2 -0.9,-2 ; -0.9,2 -0.6,2 -0.9,2 ; -0.4,-2 -0.1,-2 -0.4,-2 ; -0.4,2 -0.1,2 -0.4,2 ; 0.1,-2 0.4,-2 0.1,-2 ; 0.1,2 0.4,2 0.1,2 ; 0.6,-2 0.9,-2 0.6,-2 ; 0.6,2 0.9,2 0.6,2 ; 1.5,-1.4 1.5,-1.1 1.5,-1.4 ; 1.5,-0.9 1.5,-0.6 1.5,-0.9 ; 1.5,-0.4 1.5,-0.1 1.5,-0.4 ; 1.5,0.1 1.5,0.4 1.5,0.1 ; 1.5,0.6 1.5,0.9 1.5,0.6 ; 1.5,1.1 1.5,1.4 1.5,1.1
  text "*" at -2.122,1.246 h1.27
Mechanical 15:
  region: -1,-2.254 -1.754,-2.254 -1.754,-1.5 -1.979,-1.5 -1.979,1.5 -1.754,1.5 -1.754,2.254 -1,2.254 -1,2.479 1,2.479 1,2.254 1.754,2.254 1.754,1.5 1.979,1.5 1.979,-1.5 1.754,-1.5 1.754,-2.254 1,-2.254 1,-2.479 -1,-2.479
  lines w0.152: -1.979,-1.5 -1.979,1.5 -1.754,1.5 -1.754,2.254 -1,2.254 -1,2.479 1,2.479 1,2.254 1.754,2.254 1.754,1.5 1.979,1.5 1.979,-1.5 1.754,-1.5 1.754,-2.254 1,-2.254 1,-2.479 -1,-2.479 -1,-2.254 -1.754,-2.254 -1.754,-1.5 -1.979,-1.5
3D body "QFN20_UDC_B_AB.step": height 0.8, standoff 0, extent -1.5,-2 1.5,2
3D body: height 0.25, standoff 0, extent 0,0 0.254,0.254

## LTC6360 [mm]
pads (9):
  rect 1.353x0.441 smd paste+0 mask+0: 1(-2.226,0.975) 2(-2.226,0.325) 3(-2.226,-0.325) 4(-2.226,-0.975) 5(2.226,-0.975) 6(2.226,-0.325) 7(2.226,0.325) 8(2.226,0.975)
  rect 2x3 smd paste+0 mask+0: 9(0,0)
Top Overlay:
  lines w0.152: -1.676,-1.676 1.676,-1.676 ; -1.676,1.676 1.676,1.676
  text "*" at -2.798,1.289 h1.27
Mechanical 5:
  region: 3.538,-2.184 -3.538,-2.184 -3.538,2.184 3.538,2.184
Mechanical 13:
  lines w0: -0.305,1.549 ccw(c0,1.549) 0.305,1.549
  lines w0.025: -2.553,-1.165 -2.553,-0.784 -1.549,-0.784 -1.549,-1.165 -2.553,-1.165 ; -2.553,-0.516 -2.553,-0.135 -1.549,-0.135 -1.549,-0.516 -2.553,-0.516 ; -2.553,0.135 -2.553,0.516 -1.549,0.516 -1.549,0.135 -2.553,0.135 ; -2.553,0.784 -2.553,1.165 -1.549,1.165 -1.549,0.784 -2.553,0.784 ; -1.549,-1.549 1.549,-1.549 1.549,1.549 -1.549,1.549 -1.549,-1.549 ; 1.549,-1.165 1.549,-0.784 2.553,-0.784 2.553,-1.165 1.549,-1.165 ; 1.549,-0.516 1.549,-0.135 2.553,-0.135 2.553,-0.516 1.549,-0.516 ; 1.549,0.135 1.549,0.516 2.553,0.516 2.553,0.135 1.549,0.135 ; 1.549,0.784 1.549,1.165 2.553,1.165 2.553,0.784 1.549,0.784
  text "*" at -1.486,0.203 h1.27
Mechanical 15:
  region: -1.803,-1.449 -3.157,-1.449 -3.157,1.449 -1.803,1.449 -1.803,1.803 1.803,1.803 1.803,1.449 3.157,1.449 3.157,-1.449 1.803,-1.449 1.803,-1.803 -1.803,-1.803
  lines w0.152: -3.157,-1.449 -3.157,1.449 -1.803,1.449 -1.803,1.803 1.803,1.803 1.803,1.449 3.157,1.449 3.157,-1.449 1.803,-1.449 1.803,-1.803 -1.803,-1.803 -1.803,-1.449 -3.157,-1.449
3D body: height 0.25, standoff 0, extent 0,0 0.254,0.254
3D body "MSOP-8_MS_LIT.step": height 1.09, standoff 0, extent -2.553,-1.549 2.553,1.549

## MH_7.4MMD_3.2MMD [mm]
pads (1):
  round 7.4 hole 3.2: 1(0,0)

## OMNETICS [mil]
pads (36):
  rect 15x30 smd: 1(0,0) 2(25,0) 3(50,0) 4(75,0) 5(100,0) 6(125,0) 7(150,0) 8(175,0) 9(200,0) 10(225,0) 11(250,0) 12(275,0) 13(300,0) 14(325,0) 15(350,0) 16(375,0) 17(400,0) 18(425,0) 19(425,-37) 20(400,-37) 21(375,-37) 22(350,-37) 23(325,-37) 24(300,-37) 25(275,-37) 26(250,-37) 27(225,-37) 28(200,-37) 29(175,-37) 30(150,-37) 31(125,-37) 32(100,-37) 33(75,-37) 34(50,-37) 35(25,-37) 36(0,-37)
Top Overlay:
  lines w10: -53.15,25 -53.15,207.68 481.3,207.68 481.3,25 ; -22.87,-55.08 -37.87,-55.08 -37.87,-0.08 -22.87,14.92 ; 450.83,-57.05 471.46,-57.05 471.46,12.95 450.83,12.95
Mechanical 29:
  circle w10: c0,0 r3.94
  lines w7.87: -53.15,206.69 -53.15,-62.99 481.3,-62.99 481.3,207.68 -52.17,207.68
  text ".Designator" at 122.05,72.83 h60
3D body "A79024-001.STEP": height 71, standoff 0.5, extent -44.9,-48.31 470.1,199.69

## POWER2.1MM [mil]
height 318.9
pads (3):
  oval 92x190 hole 47 slot 138 at 90 deg: 1(0,0)
  oval 170x92 hole 47 slot 120 at 0 deg: 2(126,186.17)
  oval 92x170 hole 47 slot 120 at 90 deg: 3(238.19,0.55)
Top Overlay:
  lines w10: -33.46,-104.33 -33.46,-186.02 540,-186.02 540,199.8 227.36,199.8 ; -33.46,104.33 -33.46,199.8 25.59,199.8
Mechanical 29:
  lines w10: -33.46,-186.02 -33.46,199.8 551.18,199.8 551.18,-186.02 -33.46,-186.02
  text ".Designator" at 110,-19 h60
3D body "CUI_PJ-002AH.step": height 433.57, standoff -137.29, extent -24.8,-178.35 542.12,191.73

## R0805 [mm]
pads (2):
  rect 0.7x1.3 smd: 1(0,0) 2(1.9,0)
Top Overlay:
  lines w0.2: -0.701,-1.016 -0.701,1.016 2.601,1.016 2.601,-1.016 -0.701,-1.016
Mechanical 29:
  lines w0.2: -0.7,-1 2.6,-1 2.6,1 -0.7,1 -0.7,-1
  text ".Designator" at 0.381,-0.33 h0.8
3D body "User Library-Chip Resistor2.step": height 0.71, standoff 0.01, extent -0.05,-0.6 1.95,0.6

## res_var_5turn [mm]
pads (3):
  rect 1.3x1.6 smd: 1(0,0) 3(2.54,0)
  rect 2x1.6 smd: 2(1.27,2.9)
Top Overlay:
  lines w0.2: -1.21,-1.02 -1.21,3.99 3.82,3.99 3.82,-1.02 -1.21,-1.02
Mechanical 29:
  circle w0.4: c2.54,-0.073 r0.2
  lines w0.2: -1.21,-1.02 3.82,-1.02 3.82,3.99 -1.21,3.99 -1.21,-1.02
  text ".Designator" at -0.61,0.991 h1.52
3D body "SM-43TW2k_(202).stp": height 5.31, standoff 0.01, extent -1.1,-0.52 3.7,3.38

## ROS-32K243-40ML5_V [mm] "SMA Jack, Right Angle, Edge Mount Screw On, 14.50x14.00x5.15mm, Rosenberger Recommended"
height 5.15
pads (3):
  rect 0.48x5 smd: 1(0,-2.5)
  round 2.6 hole 2.1: MH(-4.75,-2.8) MH(4.75,-2.8)
Top Layer:
  region: 1,0 4.75,0 4.75,-1.75 4.888,-1.75 5.155,-1.822 5.395,-1.96 5.59,-2.155 5.728,-2.395 5.8,-2.662 5.8,-2.938 5.728,-3.205 5.59,-3.445 5.395,-3.64 5.155,-3.778 4.888,-3.85 4.75,-3.85 4.612,-3.85 4.345,-3.778 4.105,-3.64 3.91,-3.445 3.772,-3.205 3.7,-2.938 3.7,-2.662 3.772,-2.395 3.91,-2.155 4.105,-1.96 4.345,-1.822 4.612,-1.75 4.75,-1.75 4.75,0 7,0 7,-5 1,-5
  region: -1,0 -4.75,0 -4.75,-1.75 -4.888,-1.75 -5.155,-1.822 -5.395,-1.96 -5.59,-2.155 -5.728,-2.395 -5.8,-2.662 -5.8,-2.938 -5.728,-3.205 -5.59,-3.445 -5.395,-3.64 -5.155,-3.778 -4.888,-3.85 -4.75,-3.85 -4.612,-3.85 -4.345,-3.778 -4.105,-3.64 -3.91,-3.445 -3.772,-3.205 -3.7,-2.938 -3.7,-2.662 -3.772,-2.395 -3.91,-2.155 -4.105,-1.96 -4.345,-1.822 -4.612,-1.75 -4.75,-1.75 -4.75,0 -7,0 -7,-5 -1,-5
Bottom Layer:
  region: -1,0 -4.75,0 -4.75,-1.75 -4.888,-1.75 -5.155,-1.822 -5.395,-1.96 -5.59,-2.155 -5.728,-2.395 -5.8,-2.662 -5.8,-2.938 -5.728,-3.205 -5.59,-3.445 -5.395,-3.64 -5.155,-3.778 -4.888,-3.85 -4.75,-3.85 -4.612,-3.85 -4.345,-3.778 -4.105,-3.64 -3.91,-3.445 -3.772,-3.205 -3.7,-2.938 -3.7,-2.662 -3.772,-2.395 -3.91,-2.155 -4.105,-1.96 -4.345,-1.822 -4.612,-1.75 -4.75,-1.75 -4.75,0 -7,0 -7,-5 -1,-5
  region: 1,0 4.75,0 4.75,-1.75 4.888,-1.75 5.155,-1.822 5.395,-1.96 5.59,-2.155 5.728,-2.395 5.8,-2.662 5.8,-2.938 5.728,-3.205 5.59,-3.445 5.395,-3.64 5.155,-3.778 4.888,-3.85 4.75,-3.85 4.612,-3.85 4.345,-3.778 4.105,-3.64 3.91,-3.445 3.772,-3.205 3.7,-2.938 3.7,-2.662 3.772,-2.395 3.91,-2.155 4.105,-1.96 4.345,-1.822 4.612,-1.75 4.75,-1.75 4.75,0 7,0 7,-5 1,-5
Mechanical 3:
  lines w0.1: -8,0 8.4,0
  text "Board Edge" at -10.119,0.227 h0.2
Mechanical 13:
  circle w0.1: c-4.75,-2.8 r1.89
  circle w0.1: c4.75,-2.8 r1.89
  lines w0.1: -7,-0.6 7,-0.6 ; -6.458,-5 -6.458,-0.2 ; -2.65,-0.2 -2.65,4.9 ; -1,-5 -1,-0.2 ; -1,-0.6 1,-0.6 ; -0.125,0 -0.125,-0.79 0.125,-0.79 0.125,0 ; 1,-5 1,-0.2 ; 2.65,-0.2 2.65,4.9 ; 6.458,-5 6.458,-0.2 ; -6.458,-0.2 -1,-0.2 ; -6.458,-0.2 -7,-0.2 -7,-5 7,-5 7,-0.2 6.458,-0.2 ; -3.18,5.43 -2.65,4.9 ; -3.18,5.43 -3.18,8.17 ; -3.18,5.43 3.18,5.43 ; -3.18,8.17 -2.65,8.7 ; -3.18,8.17 3.18,8.17 ; -2.65,4.9 2.65,4.9 ; -2.65,8.7 -2.65,9.5 2.65,9.5 2.65,8.7 ; -2.65,8.7 2.65,8.7 ; -1,-0.2 -1,0 1,0 1,-0.2 ; 1,-0.2 6.458,-0.2 ; 2.65,4.9 3.18,5.43 ; 2.65,8.7 3.18,8.17 ; 3.18,5.43 3.18,8.17 ; -5.616,-2.8 -5.183,-3.55 -4.317,-3.55 -3.884,-2.8 -4.317,-2.05 -5.183,-2.05 -5.616,-2.8 ; 3.884,-2.8 4.317,-2.05 5.183,-2.05 5.616,-2.8 5.183,-3.55 4.317,-3.55 3.884,-2.8
Mechanical 15:
  lines w0.05: -7.1,-5.1 7.1,-5.1 7.1,9.6 -7.1,9.6 -7.1,-5.1
  lines w0.1: -0.5,0 0.5,0 ; 0,-0.5 0,0.5
3D body "32k243-40ml5.stp": height 5.15, standoff -4.85, extent -7,-5 7,9.5

## SPST-2 [mil] "Switch; 2 Leads"
pads (2):
  rect 85x55 hole 27 square: 1(0,0) 2(181,0)
Top Overlay:
  lines w7.87: -370,-108 -370,332 381,332 381,-108 -370,-108
Mechanical 29:
  lines w10: -382,-108 -382,332 381,332 381,-108 -382,-108
  text ".Designator" at -26,74 h60
3D body "L101011MS02Q.stp": height 554.01, standoff -165.5, extent -377.29,-102.29 375.71,326.71

## Testing_point [mm]
pads (2):
  round 2.8 smd: 1(0,0) 1(0,0)
3D body: height 4.32, standoff 1.14, extent -0.228,-0.229 0.23,0.23
3D body: height 1.14, standoff 0, extent -1.26,-1.267 1.27,1.268
3D body: height 4.55, standoff 4.09, extent -0.23,-0.226 0.23,0.227

## UMC [mm]
height 8.1
pads (4):
  rect 1x1 smd: 1(0,0) 4(0,3)
  rect 1.05x2.2 smd: 2(-1.475,1.5) 3(1.475,1.5)
Top Overlay:
  lines w0.254: -1.625,2.925 -1.625,3.2 -0.825,3.2 ; -1.585,0.06 -1.35,-0.175 -0.86,-0.175 ; 0.825,-0.15 1.625,-0.15 1.625,0.075 ; 0.825,3.2 1.625,3.2 1.625,2.925
Mechanical 29:
  lines w0.254: -1.625,0.1 -1.625,3.2 1.625,3.2 1.625,-0.15 1.6,-0.175 -1.35,-0.175 -1.625,0.1
  text ".Designator" at -1.175,1.225 h0.7
3D body "734120110.stp": height 1.3, standoff 0, extent -1.5,-0.015 1.5,3.065